# Altium footprint library ATK-2014-09-12.PcbLib: 439 footprints (part 22 of 28)
Each footprint in its own frame and in the unit in brackets; x right, y up, seen from the top. Pads: shape width x height; smd on the part's side, far side on the other; paste and mask are expansions set on the pad; w line width, h text height; cw(c..) or ccw(c..) is an arc to the next point about the centre after c.
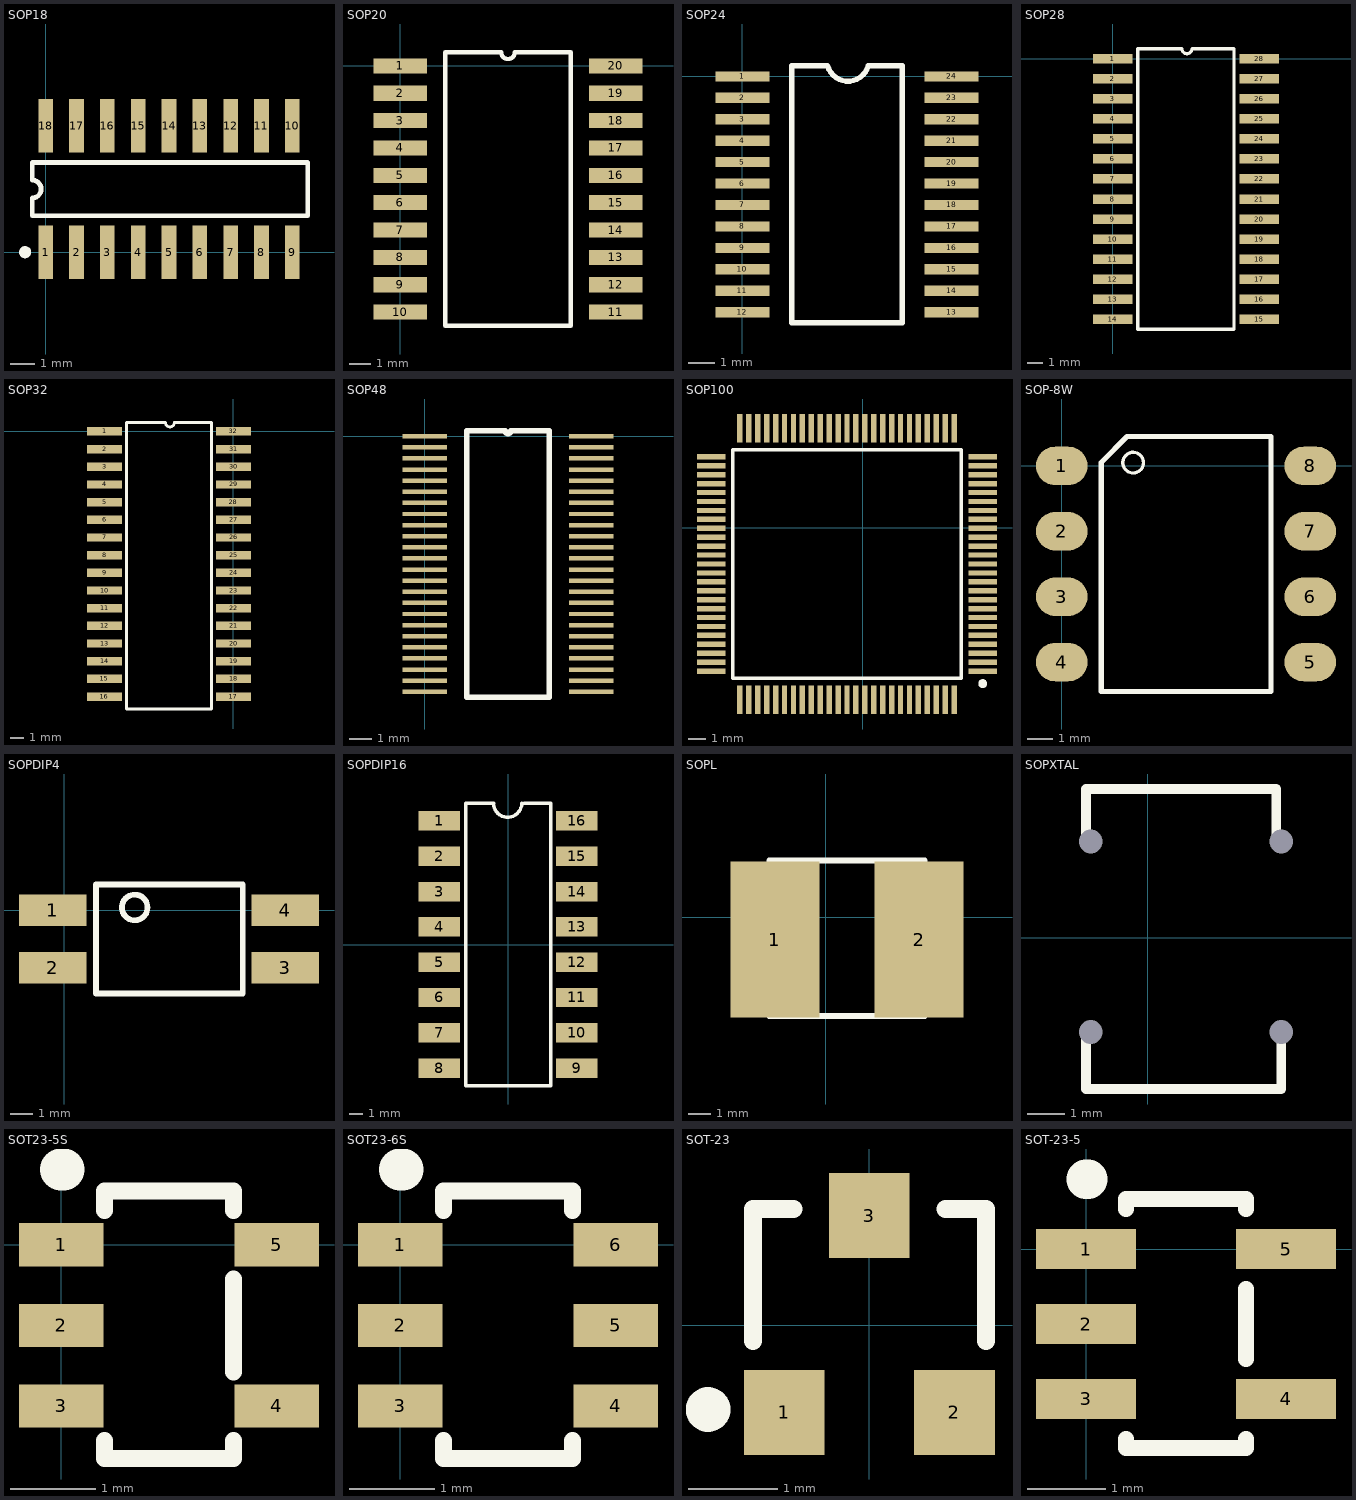
[diagram p21: the footprints below, top view; thin cyan lines are the x and y axes]

## SOP18 [mm] "Small Outline; 16 Leads; Body Width 3.9 mm; Pitch 1.27 mm"
height 1.75
pads (18):
  rect 0.6x2.2 smd: 1(0,0) 2(1.27,0) 3(2.54,0) 4(3.81,0) 5(5.08,0) 6(6.35,0) 7(7.62,0) 8(8.89,0) 9(10.16,0) 10(10.16,5.207) 11(8.89,5.207) 12(7.62,5.207) 13(6.35,5.207) 14(5.08,5.207) 15(3.81,5.207) 16(2.54,5.207) 17(1.27,5.207) 18(0,5.207)
Top Overlay:
  circle w0.25: c-0.85,0 r0.125
  lines w0.2: -0.555,1.5 10.795,1.5 10.795,3.7 -0.555,3.7 -0.555,2.967 cw(c-0.555,2.6) -0.555,2.233 -0.555,1.5

## SOP20 [mm]
height 0.762
pads (20):
  rect 2.5x0.7 smd: 1(0,0) 2(0,-1.27) 3(0,-2.54) 4(0,-3.81) 5(0,-5.08) 6(0,-6.35) 7(0,-7.62) 8(0,-8.89) 9(0,-10.16) 10(0,-11.43) 11(10,-11.43) 12(10,-10.16) 13(10,-8.89) 14(10,-7.62) 15(10,-6.35) 16(10,-5.08) 17(10,-3.81) 18(10,-2.54) 19(10,-1.27) 20(10,0)
Top Overlay:
  lines w0.2: 2.085,-12.065 2.085,0.635 4.683,0.635 ccw(c5,0.635) 5.318,0.635 7.915,0.635 7.915,-12.065 2.085,-12.065

## SOP24 [mm] "0.8MM"
height 2
pads (24):
  rect 2x0.38 smd: 1(0,0) 2(0,-0.8) 3(0,-1.6) 4(0,-2.4) 5(0,-3.2) 6(0,-4) 7(0,-4.8) 8(0,-5.6) 9(0,-6.4) 10(0,-7.2) 11(0,-8) 12(0,-8.8) 13(7.8,-8.8) 14(7.8,-8) 15(7.8,-7.2) 16(7.8,-6.4) 17(7.8,-5.6) 18(7.8,-4.8) 19(7.8,-4) 20(7.8,-3.2) 21(7.8,-2.4) 22(7.8,-1.6) 23(7.8,-0.8) 24(7.8,0)
Top Overlay:
  lines w0.2: 3.1,0.4 1.835,0.4 1.835,-9.2 5.965,-9.2 5.965,0.4 4.7,0.4 ; 3.175,0.4 ccw(c3.935,0.607) 4.694,0.401

## SOP28 [mm]
pads (28):
  rect 2.5x0.6 smd: 1(0.013,0) 2(0.013,-1.27) 3(0.013,-2.54) 4(0.013,-3.81) 5(0.013,-5.08) 6(0.013,-6.35) 7(0.013,-7.62) 8(0.013,-8.89) 9(0.013,-10.16) 10(0.013,-11.43) 11(0.013,-12.7) 12(0.013,-13.97) 13(0.013,-15.24) 14(0.013,-16.51) 15(9.284,-16.51) 16(9.284,-15.24) 17(9.284,-13.97) 18(9.284,-12.7) 19(9.284,-11.43) 20(9.284,-10.16) 21(9.284,-8.89) 22(9.284,-7.62) 23(9.284,-6.35) 24(9.284,-5.08) 25(9.284,-3.81) 26(9.284,-2.54) 27(9.284,-1.27) 28(9.284,0)
Top Overlay:
  lines w0.2: 1.594,-17.145 1.594,0.635 4.387,0.635 ccw(c4.705,0.635) 5.022,0.635 7.689,0.635 7.689,-17.145 1.594,-17.145

## SOP32 [mm] "e:1.27mm;He:10.0mm"
height 1
pads (32):
  rect 2.5x0.6 smd: 1(-9.258,0) 2(-9.258,-1.27) 3(-9.258,-2.54) 4(-9.258,-3.81) 5(-9.258,-5.08) 6(-9.258,-6.35) 7(-9.258,-7.62) 8(-9.258,-8.89) 9(-9.258,-10.16) 10(-9.258,-11.43) 11(-9.258,-12.7) 12(-9.258,-13.97) 13(-9.258,-15.24) 14(-9.258,-16.51) 15(-9.271,-17.78) 16(-9.271,-19.05) 17(0,-19.05) 18(0.013,-17.78) 19(0.013,-16.51) 20(0.013,-15.24) 21(0.013,-13.97) 22(0.013,-12.7) 23(0.013,-11.43) 24(0.013,-10.16) 25(0.013,-8.89) 26(0.013,-7.62) 27(0.013,-6.35) 28(0,-5.08) 29(0.013,-3.81) 30(0.013,-2.54) 31(0.013,-1.27) 32(0,0)
Top Overlay:
  lines w0.2: -7.677,-19.939 -7.677,0.635 -4.884,0.635 ccw(c-4.566,0.635) -4.249,0.635 -1.582,0.635 -1.582,-19.939 -7.677,-19.939

## SOP48 [mm] "SOP-48"
height 1.27
pads (48):
  rect 2x0.2 smd: 1(0,0) 2(0,-0.5) 3(0,-1) 4(0,-1.5) 5(0,-2) 6(0,-2.5) 7(0,-3) 8(0,-3.5) 9(0,-4) 10(0,-4.5) 11(0,-5) 12(0,-5.5) 13(0,-6) 14(0,-6.5) 15(0,-7) 16(0,-7.5) 17(0,-8) 18(0,-8.5) 19(0,-9) 20(0,-9.5) 21(0,-10) 22(0,-10.5) 23(0,-11) 24(0,-11.5) 25(7.5,-11.5) 26(7.5,-11) 27(7.5,-10.5) 28(7.5,-10) 29(7.5,-9.5) 30(7.5,-9) 31(7.5,-8.5) 32(7.5,-8) 33(7.5,-7.5) 34(7.5,-7) 35(7.5,-6.5) 36(7.5,-6) 37(7.5,-5.5) 38(7.5,-5) 39(7.5,-4.5) 40(7.5,-4) 41(7.5,-3.5) 42(7.5,-3) 43(7.5,-2.5) 44(7.5,-2) 45(7.5,-1.5) 46(7.5,-1) 47(7.5,-0.5) 48(7.5,0)
Top Overlay:
  lines w0.254: 1.889,-11.75 5.611,-11.75 5.611,0.25 3.875,0.25 cw(c3.75,0.25) 3.625,0.25 1.889,0.25 1.889,-11.75

## SOP100 [mm] "TQFP"
height 1
pads (100):
  rect 1.6x0.3 smd: 1(6.731,-8.04) 2(6.731,-7.54) 3(6.731,-7.04) 4(6.731,-6.54) 5(6.731,-6.04) 6(6.731,-5.54) 7(6.731,-5.04) 8(6.731,-4.54) 9(6.731,-4.04) 10(6.731,-3.54) 11(6.731,-3.04) 12(6.731,-2.54) 13(6.731,-2.04) 14(6.731,-1.54) 15(6.731,-1.04) 16(6.731,-0.54) 17(6.731,-0.04) 18(6.731,0.46) 19(6.731,0.96) 20(6.731,1.46) 21(6.731,1.96) 22(6.731,2.46) 23(6.731,2.96) 24(6.731,3.46) 25(6.731,3.96) 51(-8.469,3.96) 52(-8.469,3.46) 53(-8.469,2.96) 54(-8.469,2.46) 55(-8.469,1.96) 56(-8.469,1.46) 57(-8.469,0.96) 58(-8.469,0.46) 59(-8.469,-0.04) 60(-8.469,-0.54) 61(-8.469,-1.04) 62(-8.469,-1.54) 63(-8.469,-2.04) 64(-8.469,-2.54) 65(-8.469,-3.04) 66(-8.469,-3.54) 67(-8.469,-4.04) 68(-8.469,-4.54) 69(-8.469,-5.04) 70(-8.469,-5.54) 71(-8.469,-6.04) 72(-8.469,-6.54) 73(-8.469,-7.04) 74(-8.469,-7.54) 75(-8.469,-8.04)
  rect 0.3x1.6 smd: 26(5.131,5.56) 27(4.631,5.56) 28(4.131,5.56) 29(3.631,5.56) 30(3.131,5.56) 31(2.631,5.56) 32(2.131,5.56) 33(1.631,5.56) 34(1.131,5.56) 35(0.631,5.56) 36(0.131,5.56) 37(-0.369,5.56) 38(-0.869,5.56) 39(-1.369,5.56) 40(-1.869,5.56) 41(-2.369,5.56) 42(-2.869,5.56) 43(-3.369,5.56) 44(-3.869,5.56) 45(-4.369,5.56) 46(-4.869,5.56) 47(-5.369,5.56) 48(-5.869,5.56) 49(-6.369,5.56) 50(-6.869,5.56) 76(-6.869,-9.64) 77(-6.369,-9.64) 78(-5.869,-9.64) 79(-5.369,-9.64) 80(-4.869,-9.64) 81(-4.369,-9.64) 82(-3.869,-9.64) 83(-3.369,-9.64) 84(-2.869,-9.64) 85(-2.369,-9.64) 86(-1.869,-9.64) 87(-1.369,-9.64) 88(-0.869,-9.64) 89(-0.369,-9.64) 90(0.131,-9.64) 91(0.631,-9.64) 92(1.131,-9.64) 93(1.631,-9.64) 94(2.131,-9.64) 95(2.631,-9.64) 96(3.131,-9.64) 97(3.631,-9.64) 98(4.131,-9.64) 99(4.631,-9.64) 100(5.131,-9.64)
Top Overlay:
  circle w0.25: c6.731,-8.74 r0.125
  lines w0.2: -7.269,-8.44 -7.269,4.36 5.531,4.36 5.531,-8.44 -7.269,-8.44

## SOP-8W [mm] "宽体SOP8"
height 5.08
pads (8):
  oval 2x1.5 smd: 1(0,0) 2(0,-2.54) 3(0,-5.08) 4(0,-7.62) 5(9.652,-7.62) 6(9.652,-5.08) 7(9.652,-2.54) 8(9.652,0)
Top Overlay:
  circle w0.127: c2.773,0.127 r0.402
  lines w0.2: 1.533,-8.763 8.128,-8.763 8.128,1.143 2.54,1.143 1.533,0.136 1.533,-8.763

## SOPDIP4 [mm] "SOP-4,Row Spacing 7.62 mm; Pitch 2.54 mm"
height 5
pads (4):
  rect 3x1.4 smd: 1(-0.508,0) 2(-0.508,-2.54) 3(9.779,-2.54) 4(9.779,0)
Top Overlay:
  circle w0.254: c3.118,0.127 r0.568
  lines w0.254: 1.4,-3.683 1.4,1.143 7.9,1.143 7.9,-3.683 1.4,-3.683

## SOPDIP16 [mm] "SOP16;2.54mm;"
height 2
pads (16):
  rect 3x1.4 smd: 1(-4.953,8.89) 2(-4.953,6.35) 3(-4.953,3.81) 4(-4.953,1.27) 5(-4.953,-1.27) 6(-4.953,-3.81) 7(-4.953,-6.35) 8(-4.953,-8.89) 9(4.953,-8.89) 10(4.953,-6.35) 11(4.953,-3.81) 12(4.953,-1.27) 13(4.953,1.27) 14(4.953,3.81) 15(4.953,6.35) 16(4.953,8.89)
Top Overlay:
  lines w0.254: -3.05,-10.154 -3.05,10.166 -1.145,10.166 ; -3,-10.154 3.02,-10.154 ; -1.044,10.166 ccw(c-0.028,10.166) 0.988,10.166 ; 1.166,10.166 3.071,10.166 3.071,-10.154

## SOPL [mm] "SOP LX"
height 3
pads (2):
  rect 4x7 smd: 1(-2.286,-1.016) 2(4.191,-1.016)
Top Overlay:
  lines w0.254: -2.54,-4.445 -2.54,2.54 4.445,2.54 4.445,-4.445 -2.54,-4.445

## SOPXTAL [mil]
height 39.37
pads (4):
  round 0 hole 25: 1(-60,101) 2(-60,-99) 3(140,-99) 4(140,101)
Top Overlay:
  lines w10: -65,-99 -65,-159 140,-159 140,-99 ; -65,101 -65,156 135,156 135,101

## SOT23-5S [mm]
pads (5):
  rect 1x0.508 smd: 1(0,0) 2(0,-0.95) 3(0,-1.9) 4(2.54,-1.9) 5(2.54,0)
Top Overlay:
  lines w0.203: 0.508,-2.311 0.508,-2.523 2.032,-2.523 2.032,-2.311 ; 0.508,0.406 0.508,0.635 2.032,0.635 2.032,0.406 ; 2.032,-1.499 2.032,-0.406
  lines w0.5: 0,0.889 0.025,0.889

## SOT23-6S [mm]
pads (6):
  rect 1x0.508 smd: 1(0,0) 2(0,-0.953) 3(0,-1.9) 4(2.54,-1.9) 5(2.54,-0.953) 6(2.54,0)
Top Overlay:
  lines w0.203: 0.508,-2.311 0.508,-2.523 2.032,-2.523 2.032,-2.311 ; 0.508,0.406 0.508,0.635 2.032,0.635 2.032,0.406
  lines w0.5: 0,0.889 0.025,0.889

## SOT-23 [mm] "SOT-23; 3 Leads; Body 3.0 x 2.5 mm, inc. leads (LxW max)"
height 1.2
pads (3):
  rect 0.9x0.95 smd: 1(-0.95,-0.972) 2(0.95,-0.972) 3(0,1.226)
Top Overlay:
  circle w0.25: c-1.801,-0.94 r0.125
  lines w0.2: -1.3,-0.173 -1.3,1.302 -0.85,1.302 ; 0.85,1.302 1.3,1.302 1.3,-0.173

## SOT-23-5 [mil]
height 78.74
pads (5):
  rect 50x20 smd: 1(0,0) 2(0,-37.4) 3(0,-74.8) 4(100,-74.8) 5(100,0)
Top Overlay:
  lines w8: 20,-95 20,-99.32 80,-99.32 80,-95 ; 20,20 20,25 80,25 80,20 ; 80,-55 80,-20
  lines w19.68: 0,35 1,35